# Altium schematic symbol library Power_DCDC_StepDown_Converters_GOST.SchLib: 6 symbols
Pins are listed as number, name and electrical type; pins without a type are passive.

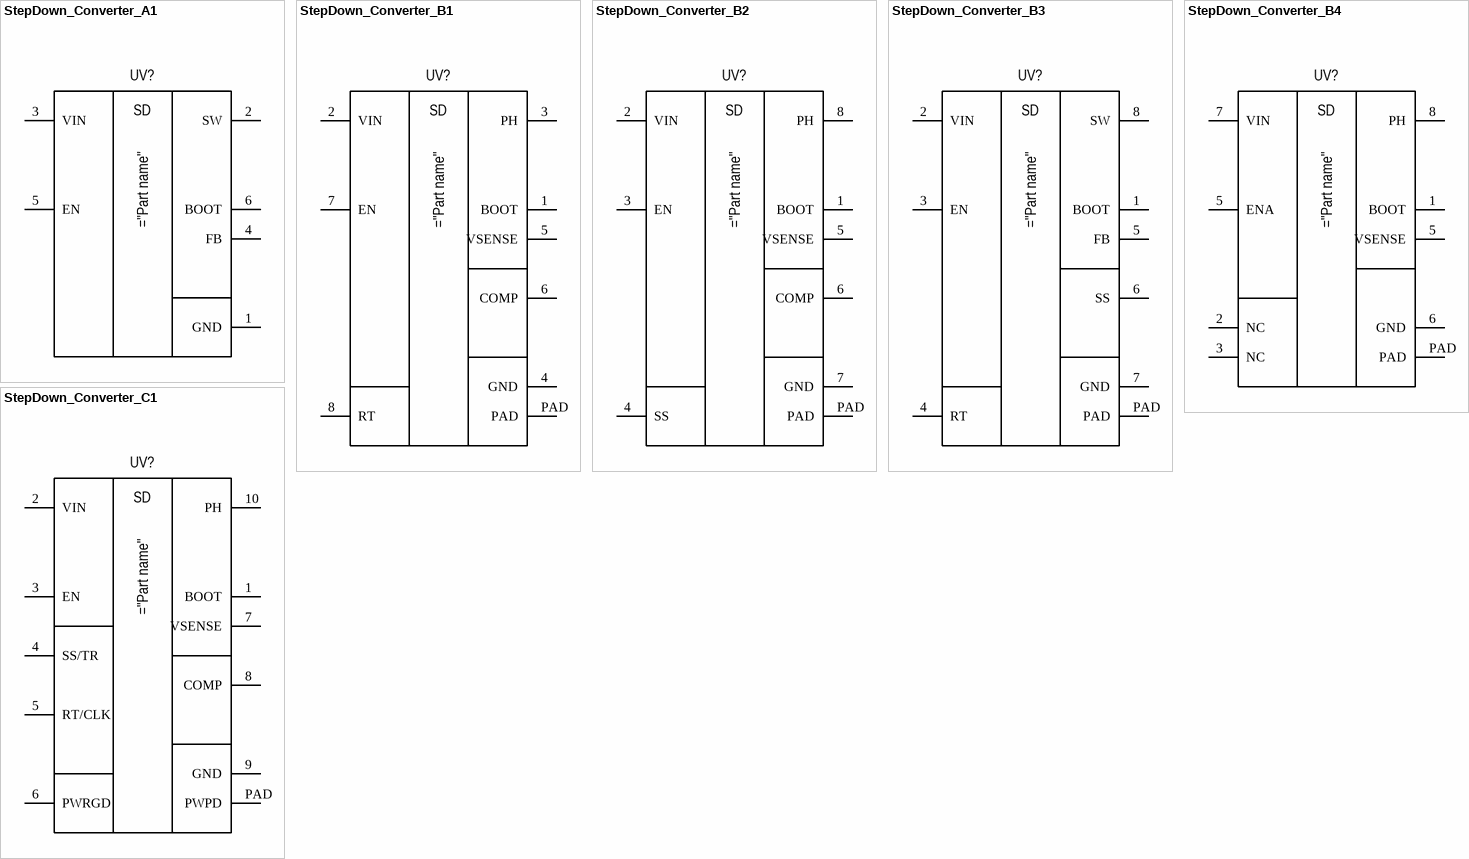
[diagram p0: symbols StepDown_Converter_A1 to StepDown_Converter_C1]

## StepDown_Converter_A1
designator UV?
pins: 1 GND, 2 SW, 3 VIN, 4 FB, 5 EN, 6 BOOT
text: SD

## StepDown_Converter_B1
designator UV?
pins: 1 BOOT, 2 VIN, 3 PH, 4 GND, 5 VSENSE, 6 COMP, 7 EN, 8 RT, PAD
text: SD

## StepDown_Converter_B2
designator UV?
pins: 1 BOOT, 2 VIN, 3 EN, 4 SS, 5 VSENSE, 6 COMP, 7 GND, 8 PH, PAD
text: SD

## StepDown_Converter_B3
designator UV?
pins: 1 BOOT, 2 VIN, 3 EN, 4 RT, 5 FB, 6 SS, 7 GND, 8 SW, PAD
text: SD

## StepDown_Converter_B4
designator UV?
pins: 1 BOOT, 2 NC, 3 NC, 5 VSENSE, 5 ENA, 6 GND, 7 VIN, 8 PH, PAD
text: SD

## StepDown_Converter_C1
designator UV?
pins: 1 BOOT, 2 VIN, 3 EN, 4 SS/TR, 5 RT/CLK, 6 PWRGD, 7 VSENSE, 8 COMP, 9 GND, 10 PH, PAD PWPD
text: SD